# Altium integrated library Analog Devices Interface and Isolation Digital Isolators.IntLib: 644 symbols (part 25 of 37)
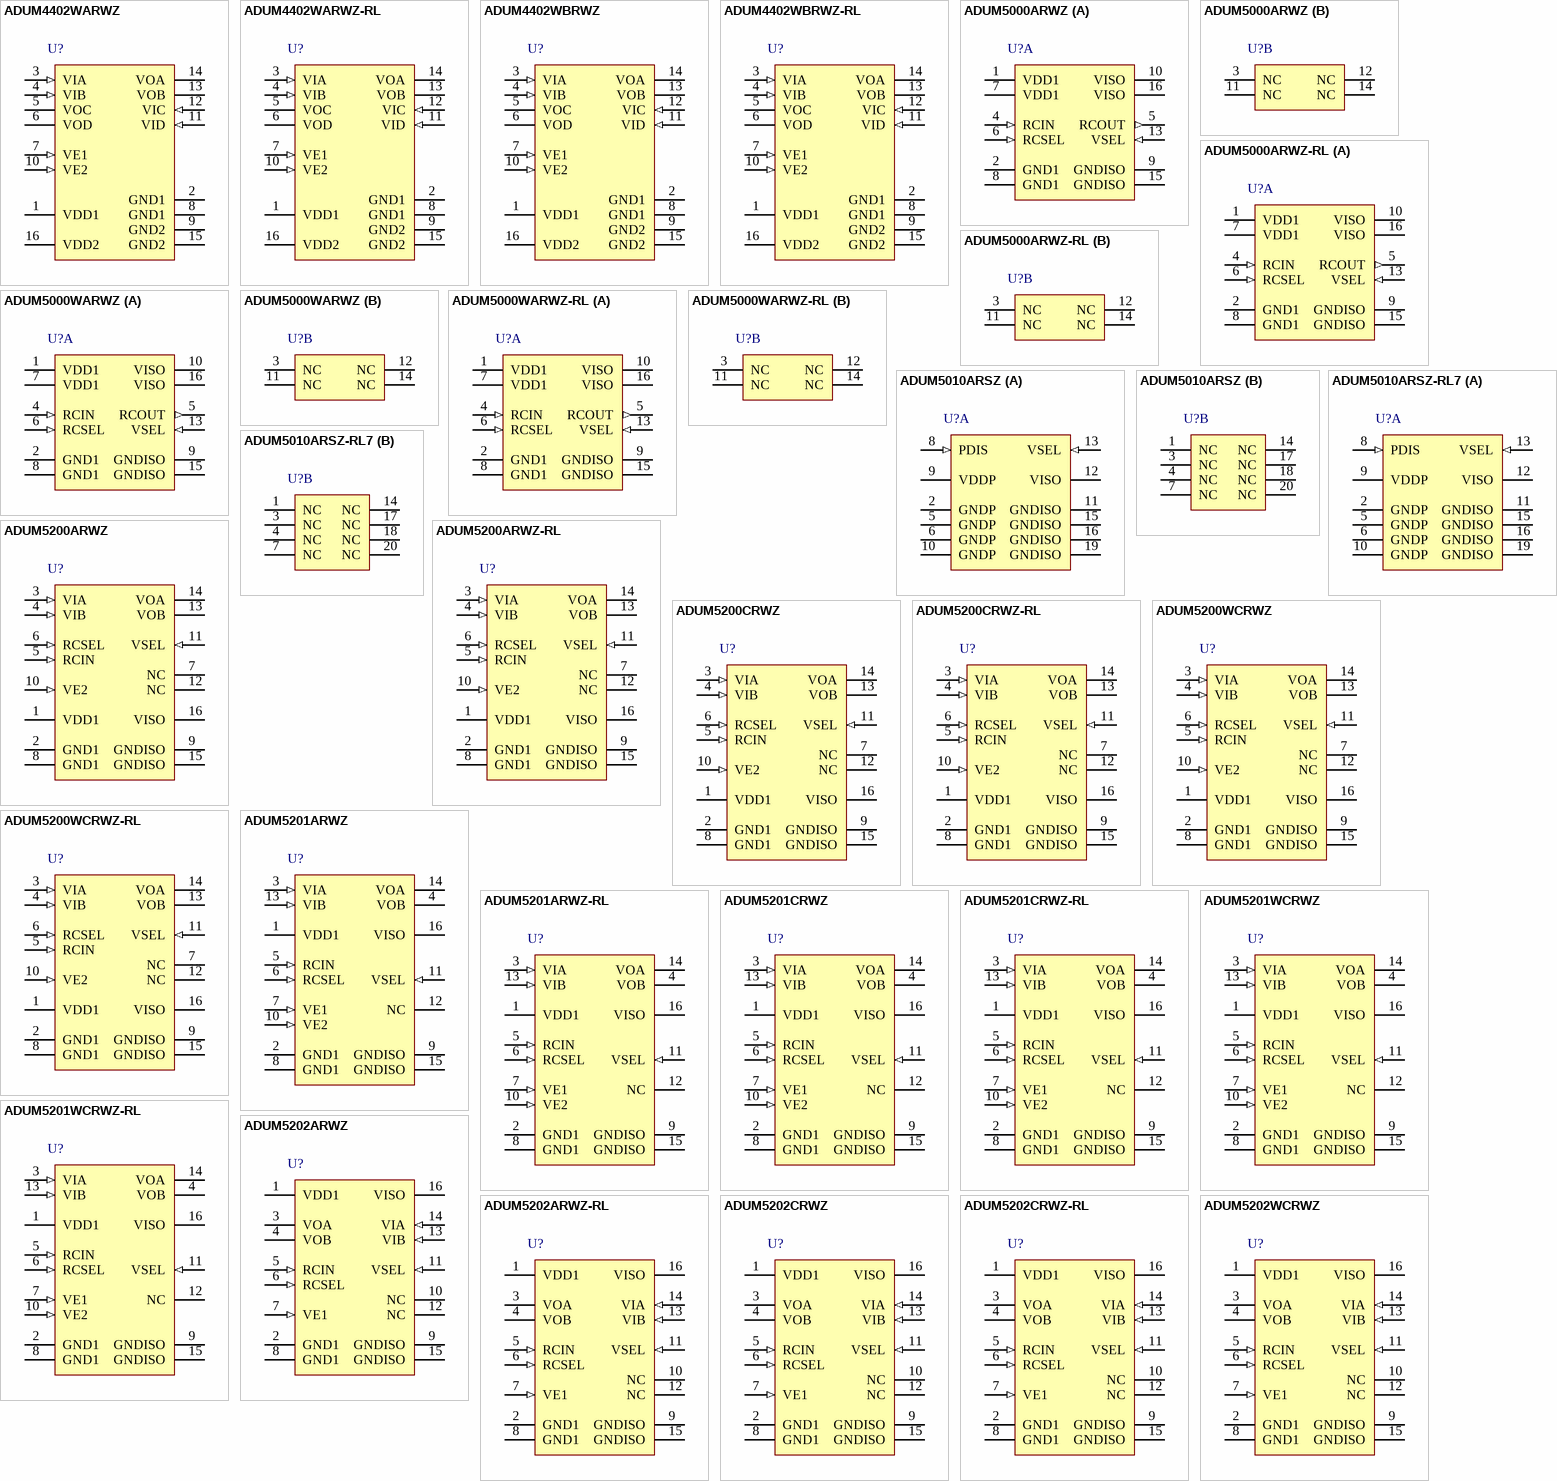
[diagram p44: symbols ADUM4402WARWZ to ADUM5202WCRWZ]

## ADUM5202WCRWZ
designator U?
Dual Channel Isolator with Integrated DC / DC Converter, 2.5 KV rms Insulation Rating, 25 Mbps Data Rate, 70 ns Delay, Industrial, 16-pin SOIC (RW-16), Tube; Manufacturer: Analog Devices; PartNumber: ADUM5202WCRWZ; Automotive Qualified: Yes; Insulation Rating (kVrms): 2.5; Max Data Rate: 25Mbps; Prop Delay: 70ns; DatasheetVersion: Rev. B; PackageVersion: 032707-B, 03/2007; PackageReference: RW-16; PackageDescription: 16-Pin Standard Small Outline Package, Body 10.3 x 7.5 mm, Pitch 1.27 mm; Supplier 1: Digi-Key; Supplier Part Number 1: ADUM5202WCRWZ-ND; Supplier 2: Mouser; Supplier Part Number 2: N/A; Max Operating Temp (degreesC): 105; Mounting Technology: Surface Mount; Code_JEDEC: MS-013-AA; ComponentLink1Description: Manufacturer URL; ComponentLink1URL: http://www.analog.com/en/index.html; ComponentLink2Description: Datasheet; ComponentLink2URL: http://www.analog.com/static/imported-files/data_sheets/ADuM5200_5201_5202.pdf; ComponentLink3Description: Package Specification; ComponentLink3URL: http://www.analog.com/static/imported-files/packages/PKG_PDF/SOIC_WIDE%20%28RW%29/RW_16.pdf
footprint ADI-RW-16_N (SOIC, 16-Leads, Body 10.3x7.5mm, Pitch 1.27mm, IPC Medium Density)
footprint ADI-RW-16_L (SOIC, 16-Leads, Body 10.3x7.5mm, Pitch 1.27mm, IPC High Density)
footprint ADI-RW-16_M (SOIC, 16-Leads, Body 10.3x7.5mm, Pitch 1.27mm, IPC Low Density)
pins: 1 VDD1 (power) "Primary Supply Voltage, 3.0 V to 5.5 V.", 2 GND1 (power) "Ground Reference for the Primary Side of the Isolator. Pin 2 and Pin 8 are internally connected to each other, and it is recommended that both pins be connected to a common ground.", 3 VOA (hiz) "Logic Output A.", 4 VOB (hiz) "Logic Output B.", 5 RCIN (in) "Regulation Control Input. This pin must be connected to the RCOUT pin of a master isoPower device or tied low. This pin must not be tied high if RCSEL is low; this combination causes excessive voltage on the secondary side (See Datasheet)", 6 RCSEL (in) "Control Input. Determines self-regulation mode (RCSEL high) or slave mode (RCSEL low), allowing external regulation. This pin is weakly pulled to the high state. In noisy environments, tie this pin either high or low.", 7 VE1 (in) "Data Enable Input. When this pin is high or not connected, the primary output is active; when this pin is low, the output is in a high-Z state.", 8 GND1 (power) "Ground Reference for the Primary Side of the Isolator. Pin 2 and Pin 8 are internally connected to each other, and it is recommended that both pins be connected to a common ground.", 9 GNDISO (power) "Ground Reference for the Secondary Side of the Isolator. Pin 9 and Pin 15 are internally connected to each other, and it is recommended that both pins be connected to a common ground.", 10 NC "No Internal Connection.", 11 VSEL (in) "Output Voltage Selection. When VSEL = VISO, the VISO setpoint is 5.0 V. When VSEL = GNDISO, the VISO setpoint is 3.3 V. In slave regulation mode, this pin has no function.", 12 NC "No Internal Connection.", 13 VIB (in) "Logic Input B.", 14 VIA (in) "Logic Input A.", 15 GNDISO (power) "Ground Reference for the Secondary Side of the Isolator. Pin 9 and Pin 15 are internally connected to each other, and it is recommended that both pins be connected to a common ground.", 16 VISO (power) "Secondary Supply Voltage. Output for secondary side isolated data channels and external loads."

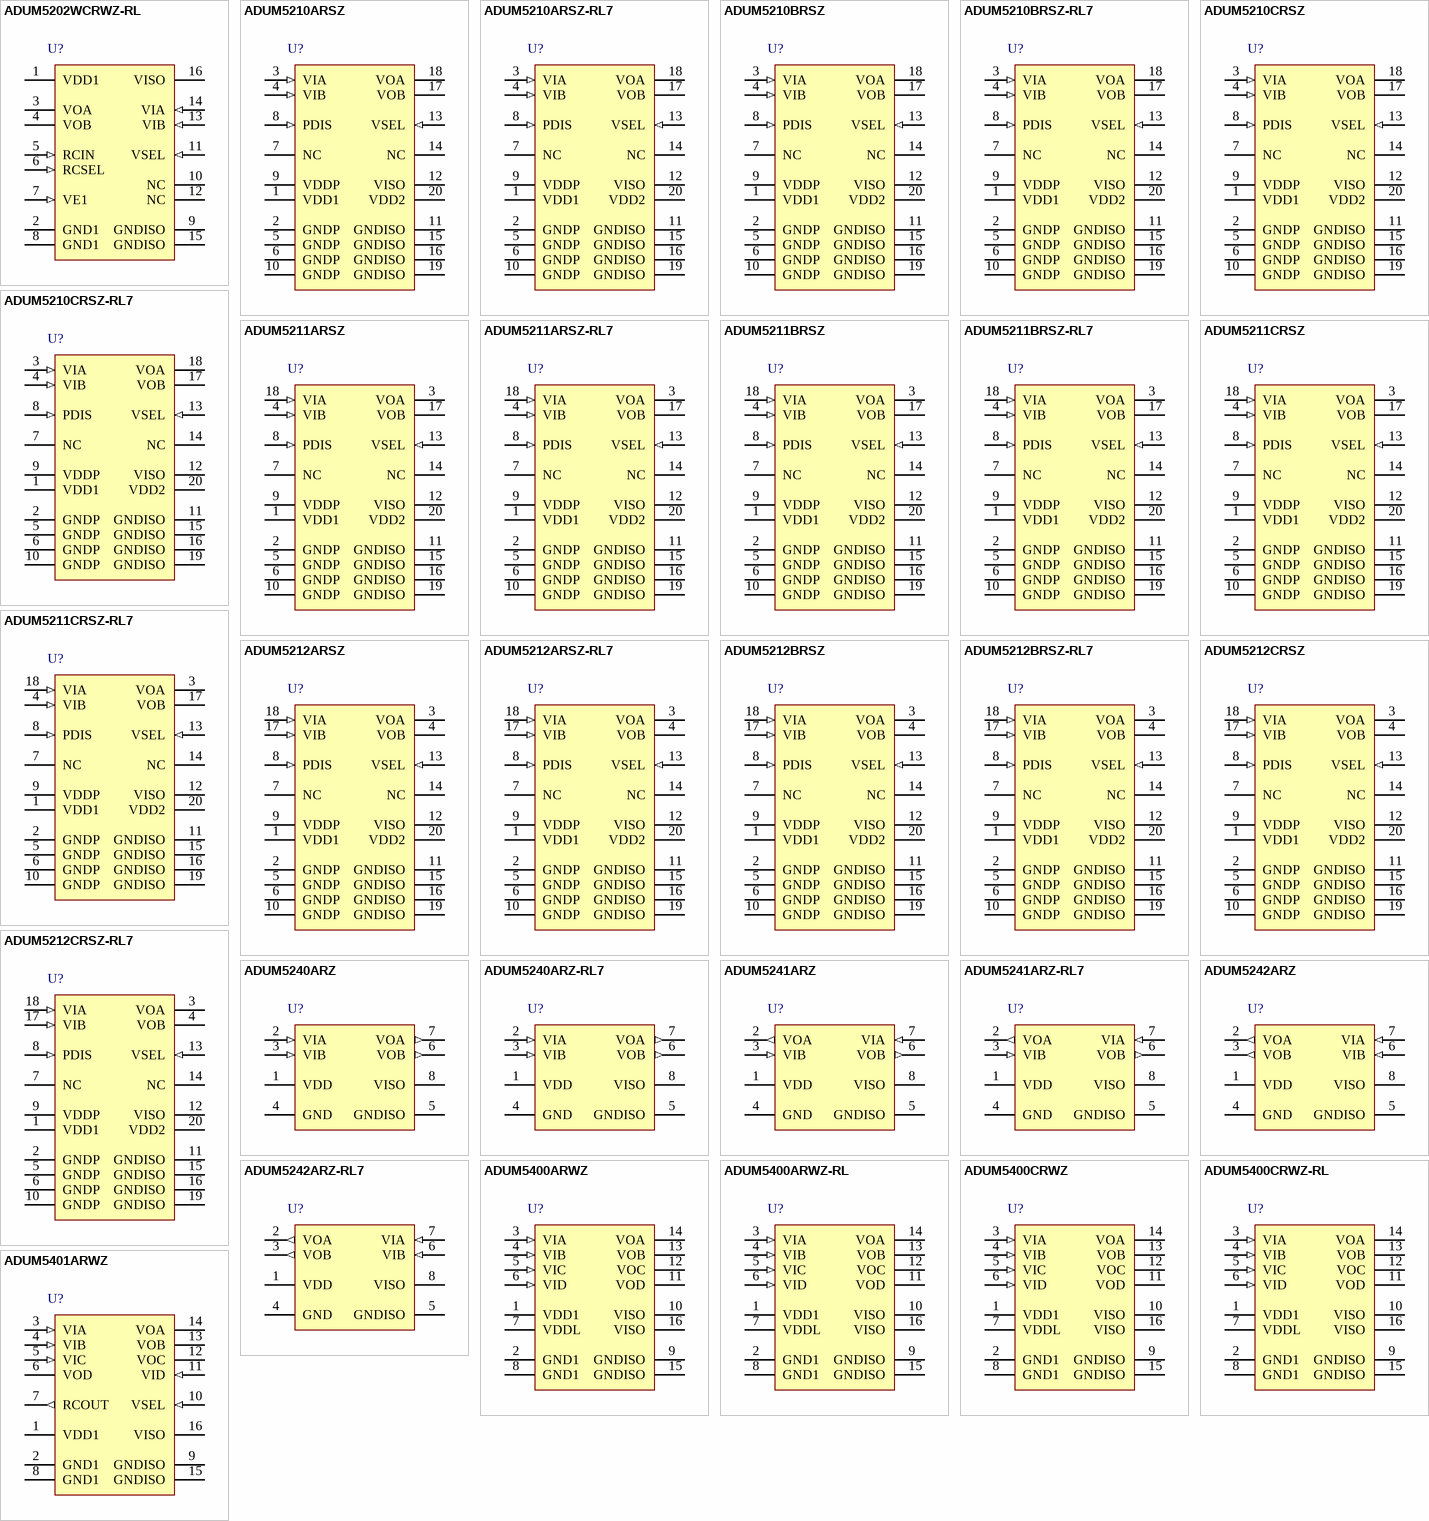
[diagram p15: symbols ADUM5202WCRWZ-RL to ADUM5401ARWZ]

## ADUM5202WCRWZ-RL
designator U?
Dual Channel Isolator with Integrated DC / DC Converter, 2.5 KV rms Insulation Rating, 25 Mbps Data Rate, 70 ns Delay, Industrial, 16-pin SOIC (RW-16), Reel; Manufacturer: Analog Devices; PartNumber: ADUM5202WCRWZ-RL; Automotive Qualified: Yes; Insulation Rating (kVrms): 2.5; Max Data Rate: 25Mbps; Prop Delay: 70ns; DatasheetVersion: Rev. B; PackageVersion: 032707-B, 03/2007; PackageReference: RW-16; PackageDescription: 16-Pin Standard Small Outline Package, Body 10.3 x 7.5 mm, Pitch 1.27 mm; Supplier 1: Digi-Key; Supplier Part Number 1: ADUM5202WCRWZ-RL-ND; Supplier 2: Mouser; Supplier Part Number 2: N/A; Max Operating Temp (degreesC): 105; Mounting Technology: Surface Mount; Code_JEDEC: MS-013-AA; ComponentLink1Description: Manufacturer URL; ComponentLink1URL: http://www.analog.com/en/index.html; ComponentLink2Description: Datasheet; ComponentLink2URL: http://www.analog.com/static/imported-files/data_sheets/ADuM5200_5201_5202.pdf; ComponentLink3Description: Package Specification; ComponentLink3URL: http://www.analog.com/static/imported-files/packages/PKG_PDF/SOIC_WIDE%20%28RW%29/RW_16.pdf
footprint ADI-RW-16_N (SOIC, 16-Leads, Body 10.3x7.5mm, Pitch 1.27mm, IPC Medium Density)
footprint ADI-RW-16_L (SOIC, 16-Leads, Body 10.3x7.5mm, Pitch 1.27mm, IPC High Density)
footprint ADI-RW-16_M (SOIC, 16-Leads, Body 10.3x7.5mm, Pitch 1.27mm, IPC Low Density)
pins: 1 VDD1 (power) "Primary Supply Voltage, 3.0 V to 5.5 V.", 2 GND1 (power) "Ground Reference for the Primary Side of the Isolator. Pin 2 and Pin 8 are internally connected to each other, and it is recommended that both pins be connected to a common ground.", 3 VOA (hiz) "Logic Output A.", 4 VOB (hiz) "Logic Output B.", 5 RCIN (in) "Regulation Control Input. This pin must be connected to the RCOUT pin of a master isoPower device or tied low. This pin must not be tied high if RCSEL is low; this combination causes excessive voltage on the secondary side (See Datasheet)", 6 RCSEL (in) "Control Input. Determines self-regulation mode (RCSEL high) or slave mode (RCSEL low), allowing external regulation. This pin is weakly pulled to the high state. In noisy environments, tie this pin either high or low.", 7 VE1 (in) "Data Enable Input. When this pin is high or not connected, the primary output is active; when this pin is low, the output is in a high-Z state.", 8 GND1 (power) "Ground Reference for the Primary Side of the Isolator. Pin 2 and Pin 8 are internally connected to each other, and it is recommended that both pins be connected to a common ground.", 9 GNDISO (power) "Ground Reference for the Secondary Side of the Isolator. Pin 9 and Pin 15 are internally connected to each other, and it is recommended that both pins be connected to a common ground.", 10 NC "No Internal Connection.", 11 VSEL (in) "Output Voltage Selection. When VSEL = VISO, the VISO setpoint is 5.0 V. When VSEL = GNDISO, the VISO setpoint is 3.3 V. In slave regulation mode, this pin has no function.", 12 NC "No Internal Connection.", 13 VIB (in) "Logic Input B.", 14 VIA (in) "Logic Input A.", 15 GNDISO (power) "Ground Reference for the Secondary Side of the Isolator. Pin 9 and Pin 15 are internally connected to each other, and it is recommended that both pins be connected to a common ground.", 16 VISO (power) "Secondary Supply Voltage. Output for secondary side isolated data channels and external loads."

## ADUM5210ARSZ
designator U?
Dual Channel Isolator with Integrated DC / DC Converter, 2.5 KV rms Insulation Rating, 1 Mbps Data Rate, 75 ns Delay, Industrial, 20-pin SOP (RS-20), Tube; Manufacturer: Analog Devices; PartNumber: ADUM5210ARSZ; Insulation Rating (kVrms): 2.5; Max Data Rate: 1Mbps; Prop Delay: 75ns; DatasheetVersion: Rev. 0; PackageVersion: Mar-03; PackageReference: RS-20; PackageDescription: 20-Pin Shrink Small Outline Package, Body 7.2 x 5.3 mm, Pitch 0.65 mm; Supplier 1: Digi-Key; Supplier Part Number 1: ADUM5210ARSZ-ND; Supplier 2: Mouser; Supplier Part Number 2: 584-ADUM5210ARSZ; Max Operating Temp (degreesC): 105; Mounting Technology: Surface Mount; Code_JEDEC: MO-150AE; ComponentLink1Description: Manufacturer URL; ComponentLink1URL: http://www.analog.com/en/index.html; ComponentLink2Description: Datasheet; ComponentLink2URL: http://www.analog.com/static/imported-files/data_sheets/ADuM5210_5211_5212.pdf; ComponentLink3Description: Package Specification; ComponentLink3URL: http://www.analog.com/static/imported-files/packages/318405805657546556503576154334802686596RS_20.pdf
footprint ADI-RS-20_N (SOP, 20-Leads, Body 7.2x5.3mm, Pitch 0.65mm, IPC Medium Density)
footprint ADI-RS-20_L (SOP, 20-Leads, Body 7.2x5.3mm, Pitch 0.65mm, IPC High Density)
footprint ADI-RS-20_M (SOP, 20-Leads, Body 7.2x5.3mm, Pitch 0.65mm, IPC Low Density)
pins: 1 VDD1 (power) "Power Supply for the Side 1 Logic Circuits of the Device. It is independent of VDDP and can operate between 3.0 V and 5.5 V.", 2 GNDP (power) "Ground Reference for Isolator Side 1. All of these pins are internally connected, and it is recommended that all GNDP pins be connected to a common ground.", 3 VIA (in) "Logic Input A.", 4 VIB (in) "Logic Input B.", 5 GNDP (power) "Ground Reference for Isolator Side 1. All of these pins are internally connected, and it is recommended that all GNDP pins be connected to a common ground.", 6 GNDP (power) "Ground Reference for Isolator Side 1. All of these pins are internally connected, and it is recommended that all GNDP pins be connected to a common ground.", 7 NC "This pin is not connected internally (see Figure 3).", 8 PDIS (in) "Power Disable. When this pin is tied to a logic low, the power converter is active; when tied to a logic high, the power supply enters a low power standby mode.", 9 VDDP (power) "Primary isoPower Supply Voltage, 3.0 V to 5.5 V.", 10 GNDP (power) "Ground Reference for Isolator Side 1. All of these pins are internally connected, and it is recommended that all GNDP pins be connected to a common ground.", 11 GNDISO (power) "Ground Reference for Isolator Side 2. All of these pins are internally connected, and it is recommended that all GNDISO pins be connected to a common ground.", 12 VISO (power) "Secondary Supply Voltage Output for External Loads, 3.3 V (VSEL Low) or 5.0 V (VSEL High).", 13 VSEL (in) "Output Voltage Select. Provide a thermally matched resistor network between VISO and GNDISO to divide the required output voltage to match the 1.25 V reference voltage. VISO voltage can be programmed up to 20% higher or 75% (See Datasheet)", 14 NC "This pin is not connected internally (see Figure 3).", 15 GNDISO (power) "Ground Reference for Isolator Side 2. All of these pins are internally connected, and it is recommended that all GNDISO pins be connected to a common ground.", 16 GNDISO (power) "Ground Reference for Isolator Side 2. All of these pins are internally connected, and it is recommended that all GNDISO pins be connected to a common ground.", 17 VOB (hiz) "Logic Output B.", 18 VOA (hiz) "Logic Output A.", 19 GNDISO (power) "Ground Reference for Isolator Side 2. All of these pins are internally connected, and it is recommended that all GNDISO pins be connected to a common ground.", 20 VDD2 (power) "Power Supply for the Side 2 Logic Circuits of the Device. It is independent of VISO and can operate between 3.0 V and 5.5 V."

## ADUM5210ARSZ-RL7
designator U?
Dual Channel Isolator with Integrated DC / DC Converter, 2.5 KV rms Insulation Rating, 1 Mbps Data Rate, 75 ns Delay, Industrial, 20-pin SOP (RS-20), Reel; Manufacturer: Analog Devices; PartNumber: ADUM5210ARSZ-RL7; Insulation Rating (kVrms): 2.5; Max Data Rate: 1Mbps; Prop Delay: 75ns; DatasheetVersion: Rev. 0; PackageVersion: Mar-03; PackageReference: RS-20; PackageDescription: 20-Pin Shrink Small Outline Package, Body 7.2 x 5.3 mm, Pitch 0.65 mm; Supplier 1: Digi-Key; Supplier Part Number 1: ADUM5210ARSZ-RL7-ND; Supplier 2: Mouser; Supplier Part Number 2: 584-ADUM5210ARSZ-R7; Max Operating Temp (degreesC): 105; Mounting Technology: Surface Mount; Code_JEDEC: MO-150AE; ComponentLink1Description: Manufacturer URL; ComponentLink1URL: http://www.analog.com/en/index.html; ComponentLink2Description: Datasheet; ComponentLink2URL: http://www.analog.com/static/imported-files/data_sheets/ADuM5210_5211_5212.pdf; ComponentLink3Description: Package Specification; ComponentLink3URL: http://www.analog.com/static/imported-files/packages/318405805657546556503576154334802686596RS_20.pdf
footprint ADI-RS-20_N (SOP, 20-Leads, Body 7.2x5.3mm, Pitch 0.65mm, IPC Medium Density)
footprint ADI-RS-20_L (SOP, 20-Leads, Body 7.2x5.3mm, Pitch 0.65mm, IPC High Density)
footprint ADI-RS-20_M (SOP, 20-Leads, Body 7.2x5.3mm, Pitch 0.65mm, IPC Low Density)
pins: 1 VDD1 (power) "Power Supply for the Side 1 Logic Circuits of the Device. It is independent of VDDP and can operate between 3.0 V and 5.5 V.", 2 GNDP (power) "Ground Reference for Isolator Side 1. All of these pins are internally connected, and it is recommended that all GNDP pins be connected to a common ground.", 3 VIA (in) "Logic Input A.", 4 VIB (in) "Logic Input B.", 5 GNDP (power) "Ground Reference for Isolator Side 1. All of these pins are internally connected, and it is recommended that all GNDP pins be connected to a common ground.", 6 GNDP (power) "Ground Reference for Isolator Side 1. All of these pins are internally connected, and it is recommended that all GNDP pins be connected to a common ground.", 7 NC "This pin is not connected internally (see Figure 3).", 8 PDIS (in) "Power Disable. When this pin is tied to a logic low, the power converter is active; when tied to a logic high, the power supply enters a low power standby mode.", 9 VDDP (power) "Primary isoPower Supply Voltage, 3.0 V to 5.5 V.", 10 GNDP (power) "Ground Reference for Isolator Side 1. All of these pins are internally connected, and it is recommended that all GNDP pins be connected to a common ground.", 11 GNDISO (power) "Ground Reference for Isolator Side 2. All of these pins are internally connected, and it is recommended that all GNDISO pins be connected to a common ground.", 12 VISO (power) "Secondary Supply Voltage Output for External Loads, 3.3 V (VSEL Low) or 5.0 V (VSEL High).", 13 VSEL (in) "Output Voltage Select. Provide a thermally matched resistor network between VISO and GNDISO to divide the required output voltage to match the 1.25 V reference voltage. VISO voltage can be programmed up to 20% higher or 75% (See Datasheet)", 14 NC "This pin is not connected internally (see Figure 3).", 15 GNDISO (power) "Ground Reference for Isolator Side 2. All of these pins are internally connected, and it is recommended that all GNDISO pins be connected to a common ground.", 16 GNDISO (power) "Ground Reference for Isolator Side 2. All of these pins are internally connected, and it is recommended that all GNDISO pins be connected to a common ground.", 17 VOB (hiz) "Logic Output B.", 18 VOA (hiz) "Logic Output A.", 19 GNDISO (power) "Ground Reference for Isolator Side 2. All of these pins are internally connected, and it is recommended that all GNDISO pins be connected to a common ground.", 20 VDD2 (power) "Power Supply for the Side 2 Logic Circuits of the Device. It is independent of VISO and can operate between 3.0 V and 5.5 V."

## ADUM5210BRSZ
designator U?
Dual Channel Isolator with Integrated DC / DC Converter, 2.5 KV rms Insulation Rating, 25 Mbps Data Rate, 40 ns Delay, Industrial, 20-pin SOP (RS-20), Tube; Manufacturer: Analog Devices; PartNumber: ADUM5210BRSZ; Insulation Rating (kVrms): 2.5; Max Data Rate: 25Mbps; Prop Delay: 40ns; DatasheetVersion: Rev. 0; PackageVersion: Mar-03; PackageReference: RS-20; PackageDescription: 20-Pin Shrink Small Outline Package, Body 7.2 x 5.3 mm, Pitch 0.65 mm; Supplier 1: Digi-Key; Supplier Part Number 1: ADUM5210BRSZ-ND; Supplier 2: Mouser; Supplier Part Number 2: 584-ADUM5210BRSZ; Max Operating Temp (degreesC): 105; Mounting Technology: Surface Mount; Code_JEDEC: MO-150AE; ComponentLink1Description: Manufacturer URL; ComponentLink1URL: http://www.analog.com/en/index.html; ComponentLink2Description: Datasheet; ComponentLink2URL: http://www.analog.com/static/imported-files/data_sheets/ADuM5210_5211_5212.pdf; ComponentLink3Description: Package Specification; ComponentLink3URL: http://www.analog.com/static/imported-files/packages/318405805657546556503576154334802686596RS_20.pdf
footprint ADI-RS-20_N (SOP, 20-Leads, Body 7.2x5.3mm, Pitch 0.65mm, IPC Medium Density)
footprint ADI-RS-20_L (SOP, 20-Leads, Body 7.2x5.3mm, Pitch 0.65mm, IPC High Density)
footprint ADI-RS-20_M (SOP, 20-Leads, Body 7.2x5.3mm, Pitch 0.65mm, IPC Low Density)
pins: 1 VDD1 (power) "Power Supply for the Side 1 Logic Circuits of the Device. It is independent of VDDP and can operate between 3.0 V and 5.5 V.", 2 GNDP (power) "Ground Reference for Isolator Side 1. All of these pins are internally connected, and it is recommended that all GNDP pins be connected to a common ground.", 3 VIA (in) "Logic Input A.", 4 VIB (in) "Logic Input B.", 5 GNDP (power) "Ground Reference for Isolator Side 1. All of these pins are internally connected, and it is recommended that all GNDP pins be connected to a common ground.", 6 GNDP (power) "Ground Reference for Isolator Side 1. All of these pins are internally connected, and it is recommended that all GNDP pins be connected to a common ground.", 7 NC "This pin is not connected internally (see Figure 3).", 8 PDIS (in) "Power Disable. When this pin is tied to a logic low, the power converter is active; when tied to a logic high, the power supply enters a low power standby mode.", 9 VDDP (power) "Primary isoPower Supply Voltage, 3.0 V to 5.5 V.", 10 GNDP (power) "Ground Reference for Isolator Side 1. All of these pins are internally connected, and it is recommended that all GNDP pins be connected to a common ground.", 11 GNDISO (power) "Ground Reference for Isolator Side 2. All of these pins are internally connected, and it is recommended that all GNDISO pins be connected to a common ground.", 12 VISO (power) "Secondary Supply Voltage Output for External Loads, 3.3 V (VSEL Low) or 5.0 V (VSEL High).", 13 VSEL (in) "Output Voltage Select. Provide a thermally matched resistor network between VISO and GNDISO to divide the required output voltage to match the 1.25 V reference voltage. VISO voltage can be programmed up to 20% higher or 75% (See Datasheet)", 14 NC "This pin is not connected internally (see Figure 3).", 15 GNDISO (power) "Ground Reference for Isolator Side 2. All of these pins are internally connected, and it is recommended that all GNDISO pins be connected to a common ground.", 16 GNDISO (power) "Ground Reference for Isolator Side 2. All of these pins are internally connected, and it is recommended that all GNDISO pins be connected to a common ground.", 17 VOB (hiz) "Logic Output B.", 18 VOA (hiz) "Logic Output A.", 19 GNDISO (power) "Ground Reference for Isolator Side 2. All of these pins are internally connected, and it is recommended that all GNDISO pins be connected to a common ground.", 20 VDD2 (power) "Power Supply for the Side 2 Logic Circuits of the Device. It is independent of VISO and can operate between 3.0 V and 5.5 V."

## ADUM5210BRSZ-RL7
designator U?
Dual Channel Isolator with Integrated DC / DC Converter, 2.5 KV rms Insulation Rating, 25 Mbps Data Rate, 40 ns Delay, Industrial, 20-pin SOP (RS-20), Reel; Manufacturer: Analog Devices; PartNumber: ADUM5210BRSZ-RL7; Insulation Rating (kVrms): 2.5; Max Data Rate: 25Mbps; Prop Delay: 40ns; DatasheetVersion: Rev. 0; PackageVersion: Mar-03; PackageReference: RS-20; PackageDescription: 20-Pin Shrink Small Outline Package, Body 7.2 x 5.3 mm, Pitch 0.65 mm; Supplier 1: Digi-Key; Supplier Part Number 1: ADUM5210BRSZ-RL7-ND; Supplier 2: Mouser; Supplier Part Number 2: 584-ADUM5210BRSZ-R7; Max Operating Temp (degreesC): 105; Mounting Technology: Surface Mount; Code_JEDEC: MO-150AE; ComponentLink1Description: Manufacturer URL; ComponentLink1URL: http://www.analog.com/en/index.html; ComponentLink2Description: Datasheet; ComponentLink2URL: http://www.analog.com/static/imported-files/data_sheets/ADuM5210_5211_5212.pdf; ComponentLink3Description: Package Specification; ComponentLink3URL: http://www.analog.com/static/imported-files/packages/318405805657546556503576154334802686596RS_20.pdf
footprint ADI-RS-20_N (SOP, 20-Leads, Body 7.2x5.3mm, Pitch 0.65mm, IPC Medium Density)
footprint ADI-RS-20_L (SOP, 20-Leads, Body 7.2x5.3mm, Pitch 0.65mm, IPC High Density)
footprint ADI-RS-20_M (SOP, 20-Leads, Body 7.2x5.3mm, Pitch 0.65mm, IPC Low Density)
pins: 1 VDD1 (power) "Power Supply for the Side 1 Logic Circuits of the Device. It is independent of VDDP and can operate between 3.0 V and 5.5 V.", 2 GNDP (power) "Ground Reference for Isolator Side 1. All of these pins are internally connected, and it is recommended that all GNDP pins be connected to a common ground.", 3 VIA (in) "Logic Input A.", 4 VIB (in) "Logic Input B.", 5 GNDP (power) "Ground Reference for Isolator Side 1. All of these pins are internally connected, and it is recommended that all GNDP pins be connected to a common ground.", 6 GNDP (power) "Ground Reference for Isolator Side 1. All of these pins are internally connected, and it is recommended that all GNDP pins be connected to a common ground.", 7 NC "This pin is not connected internally (see Figure 3).", 8 PDIS (in) "Power Disable. When this pin is tied to a logic low, the power converter is active; when tied to a logic high, the power supply enters a low power standby mode.", 9 VDDP (power) "Primary isoPower Supply Voltage, 3.0 V to 5.5 V.", 10 GNDP (power) "Ground Reference for Isolator Side 1. All of these pins are internally connected, and it is recommended that all GNDP pins be connected to a common ground.", 11 GNDISO (power) "Ground Reference for Isolator Side 2. All of these pins are internally connected, and it is recommended that all GNDISO pins be connected to a common ground.", 12 VISO (power) "Secondary Supply Voltage Output for External Loads, 3.3 V (VSEL Low) or 5.0 V (VSEL High).", 13 VSEL (in) "Output Voltage Select. Provide a thermally matched resistor network between VISO and GNDISO to divide the required output voltage to match the 1.25 V reference voltage. VISO voltage can be programmed up to 20% higher or 75% (See Datasheet)", 14 NC "This pin is not connected internally (see Figure 3).", 15 GNDISO (power) "Ground Reference for Isolator Side 2. All of these pins are internally connected, and it is recommended that all GNDISO pins be connected to a common ground.", 16 GNDISO (power) "Ground Reference for Isolator Side 2. All of these pins are internally connected, and it is recommended that all GNDISO pins be connected to a common ground.", 17 VOB (hiz) "Logic Output B.", 18 VOA (hiz) "Logic Output A.", 19 GNDISO (power) "Ground Reference for Isolator Side 2. All of these pins are internally connected, and it is recommended that all GNDISO pins be connected to a common ground.", 20 VDD2 (power) "Power Supply for the Side 2 Logic Circuits of the Device. It is independent of VISO and can operate between 3.0 V and 5.5 V."

## ADUM5210CRSZ
designator U?
Dual Channel Isolator with Integrated DC / DC Converter, 2.5 KV rms Insulation Rating, 100 Mbps Data Rate, 15 ns Delay, Industrial, 20-pin SOP (RS-20), Tube; Manufacturer: Analog Devices; PartNumber: ADUM5210CRSZ; Insulation Rating (kVrms): 2.5; Prop Delay: 15ns; DatasheetVersion: Rev. 0; PackageVersion: Mar-03; PackageReference: RS-20; PackageDescription: 20-Pin Shrink Small Outline Package, Body 7.2 x 5.3 mm, Pitch 0.65 mm; Supplier 1: Digi-Key; Supplier Part Number 1: ADUM5210CRSZ-ND; Supplier 2: Farnell; Supplier Part Number 2: 2218481; Supplier 3: Mouser; Supplier Part Number 3: 584-ADUM5210CRSZ; Max Data Rate: 100Mbps; Max Operating Temp (degreesC): 105; Mounting Technology: Surface Mount; Code_JEDEC: MO-150AE; ComponentLink1Description: Manufacturer URL; ComponentLink1URL: http://www.analog.com/en/index.html; ComponentLink2Description: Datasheet; ComponentLink2URL: http://www.analog.com/static/imported-files/data_sheets/ADuM5210_5211_5212.pdf; ComponentLink3Description: Package Specification; ComponentLink3URL: http://www.analog.com/static/imported-files/packages/318405805657546556503576154334802686596RS_20.pdf
footprint ADI-RS-20_N (SOP, 20-Leads, Body 7.2x5.3mm, Pitch 0.65mm, IPC Medium Density)
footprint ADI-RS-20_L (SOP, 20-Leads, Body 7.2x5.3mm, Pitch 0.65mm, IPC High Density)
footprint ADI-RS-20_M (SOP, 20-Leads, Body 7.2x5.3mm, Pitch 0.65mm, IPC Low Density)
pins: 1 VDD1 (power) "Power Supply for the Side 1 Logic Circuits of the Device. It is independent of VDDP and can operate between 3.0 V and 5.5 V.", 2 GNDP (power) "Ground Reference for Isolator Side 1. All of these pins are internally connected, and it is recommended that all GNDP pins be connected to a common ground.", 3 VIA (in) "Logic Input A.", 4 VIB (in) "Logic Input B.", 5 GNDP (power) "Ground Reference for Isolator Side 1. All of these pins are internally connected, and it is recommended that all GNDP pins be connected to a common ground.", 6 GNDP (power) "Ground Reference for Isolator Side 1. All of these pins are internally connected, and it is recommended that all GNDP pins be connected to a common ground.", 7 NC "This pin is not connected internally (see Figure 3).", 8 PDIS (in) "Power Disable. When this pin is tied to a logic low, the power converter is active; when tied to a logic high, the power supply enters a low power standby mode.", 9 VDDP (power) "Primary isoPower Supply Voltage, 3.0 V to 5.5 V.", 10 GNDP (power) "Ground Reference for Isolator Side 1. All of these pins are internally connected, and it is recommended that all GNDP pins be connected to a common ground.", 11 GNDISO (power) "Ground Reference for Isolator Side 2. All of these pins are internally connected, and it is recommended that all GNDISO pins be connected to a common ground.", 12 VISO (power) "Secondary Supply Voltage Output for External Loads, 3.3 V (VSEL Low) or 5.0 V (VSEL High).", 13 VSEL (in) "Output Voltage Select. Provide a thermally matched resistor network between VISO and GNDISO to divide the required output voltage to match the 1.25 V reference voltage. VISO voltage can be programmed up to 20% higher or 75% (See Datasheet)", 14 NC "This pin is not connected internally (see Figure 3).", 15 GNDISO (power) "Ground Reference for Isolator Side 2. All of these pins are internally connected, and it is recommended that all GNDISO pins be connected to a common ground.", 16 GNDISO (power) "Ground Reference for Isolator Side 2. All of these pins are internally connected, and it is recommended that all GNDISO pins be connected to a common ground.", 17 VOB (hiz) "Logic Output B.", 18 VOA (hiz) "Logic Output A.", 19 GNDISO (power) "Ground Reference for Isolator Side 2. All of these pins are internally connected, and it is recommended that all GNDISO pins be connected to a common ground.", 20 VDD2 (power) "Power Supply for the Side 2 Logic Circuits of the Device. It is independent of VISO and can operate between 3.0 V and 5.5 V."

## ADUM5210CRSZ-RL7
designator U?
Dual Channel Isolator with Integrated DC / DC Converter, 2.5 KV rms Insulation Rating, 100 Mbps Data Rate, 15 ns Delay, Industrial, 20-pin SOP (RS-20), Reel; Manufacturer: Analog Devices; PartNumber: ADUM5210CRSZ-RL7; Insulation Rating (kVrms): 2.5; Prop Delay: 15ns; DatasheetVersion: Rev. 0; PackageVersion: Mar-03; PackageReference: RS-20; PackageDescription: 20-Pin Shrink Small Outline Package, Body 7.2 x 5.3 mm, Pitch 0.65 mm; Supplier 1: Digi-Key; Supplier Part Number 1: ADUM5210CRSZ-RL7-ND; Supplier 2: Mouser; Supplier Part Number 2: 584-ADUM5210CRSZ-R7; Max Data Rate: 100Mbps; Max Operating Temp (degreesC): 105; Mounting Technology: Surface Mount; Code_JEDEC: MO-150AE; ComponentLink1Description: Manufacturer URL; ComponentLink1URL: http://www.analog.com/en/index.html; ComponentLink2Description: Datasheet; ComponentLink2URL: http://www.analog.com/static/imported-files/data_sheets/ADuM5210_5211_5212.pdf; ComponentLink3Description: Package Specification; ComponentLink3URL: http://www.analog.com/static/imported-files/packages/318405805657546556503576154334802686596RS_20.pdf
footprint ADI-RS-20_N (SOP, 20-Leads, Body 7.2x5.3mm, Pitch 0.65mm, IPC Medium Density)
footprint ADI-RS-20_L (SOP, 20-Leads, Body 7.2x5.3mm, Pitch 0.65mm, IPC High Density)
footprint ADI-RS-20_M (SOP, 20-Leads, Body 7.2x5.3mm, Pitch 0.65mm, IPC Low Density)
pins: 1 VDD1 (power) "Power Supply for the Side 1 Logic Circuits of the Device. It is independent of VDDP and can operate between 3.0 V and 5.5 V.", 2 GNDP (power) "Ground Reference for Isolator Side 1. All of these pins are internally connected, and it is recommended that all GNDP pins be connected to a common ground.", 3 VIA (in) "Logic Input A.", 4 VIB (in) "Logic Input B.", 5 GNDP (power) "Ground Reference for Isolator Side 1. All of these pins are internally connected, and it is recommended that all GNDP pins be connected to a common ground.", 6 GNDP (power) "Ground Reference for Isolator Side 1. All of these pins are internally connected, and it is recommended that all GNDP pins be connected to a common ground.", 7 NC "This pin is not connected internally (see Figure 3).", 8 PDIS (in) "Power Disable. When this pin is tied to a logic low, the power converter is active; when tied to a logic high, the power supply enters a low power standby mode.", 9 VDDP (power) "Primary isoPower Supply Voltage, 3.0 V to 5.5 V.", 10 GNDP (power) "Ground Reference for Isolator Side 1. All of these pins are internally connected, and it is recommended that all GNDP pins be connected to a common ground.", 11 GNDISO (power) "Ground Reference for Isolator Side 2. All of these pins are internally connected, and it is recommended that all GNDISO pins be connected to a common ground.", 12 VISO (power) "Secondary Supply Voltage Output for External Loads, 3.3 V (VSEL Low) or 5.0 V (VSEL High).", 13 VSEL (in) "Output Voltage Select. Provide a thermally matched resistor network between VISO and GNDISO to divide the required output voltage to match the 1.25 V reference voltage. VISO voltage can be programmed up to 20% higher or 75% (See Datasheet)", 14 NC "This pin is not connected internally (see Figure 3).", 15 GNDISO (power) "Ground Reference for Isolator Side 2. All of these pins are internally connected, and it is recommended that all GNDISO pins be connected to a common ground.", 16 GNDISO (power) "Ground Reference for Isolator Side 2. All of these pins are internally connected, and it is recommended that all GNDISO pins be connected to a common ground.", 17 VOB (hiz) "Logic Output B.", 18 VOA (hiz) "Logic Output A.", 19 GNDISO (power) "Ground Reference for Isolator Side 2. All of these pins are internally connected, and it is recommended that all GNDISO pins be connected to a common ground.", 20 VDD2 (power) "Power Supply for the Side 2 Logic Circuits of the Device. It is independent of VISO and can operate between 3.0 V and 5.5 V."

## ADUM5211ARSZ
designator U?
Dual Channel Isolator with Integrated DC / DC Converter, 2.5 KV rms Insulation Rating, 1 Mbps Data Rate, 75 ns Delay, Industrial, 20-pin SOP (RS-20), Tube; Manufacturer: Analog Devices; PartNumber: ADUM5211ARSZ; Insulation Rating (kVrms): 2.5; Max Data Rate: 1Mbps; Prop Delay: 75ns; DatasheetVersion: Rev. 0; PackageVersion: Mar-03; PackageReference: RS-20; PackageDescription: 20-Pin Shrink Small Outline Package, Body 7.2 x 5.3 mm, Pitch 0.65 mm; Supplier 1: Digi-Key; Supplier Part Number 1: ADUM5211ARSZ-ND; Supplier 2: Mouser; Supplier Part Number 2: 584-ADUM5211ARSZ; Max Operating Temp (degreesC): 105; Mounting Technology: Surface Mount; Code_JEDEC: MO-150AE; ComponentLink1Description: Manufacturer URL; ComponentLink1URL: http://www.analog.com/en/index.html; ComponentLink2Description: Datasheet; ComponentLink2URL: http://www.analog.com/static/imported-files/data_sheets/ADuM5210_5211_5212.pdf; ComponentLink3Description: Package Specification; ComponentLink3URL: http://www.analog.com/static/imported-files/packages/318405805657546556503576154334802686596RS_20.pdf
footprint ADI-RS-20_N (SOP, 20-Leads, Body 7.2x5.3mm, Pitch 0.65mm, IPC Medium Density)
footprint ADI-RS-20_L (SOP, 20-Leads, Body 7.2x5.3mm, Pitch 0.65mm, IPC High Density)
footprint ADI-RS-20_M (SOP, 20-Leads, Body 7.2x5.3mm, Pitch 0.65mm, IPC Low Density)
pins: 1 VDD1 (power) "Power Supply for the Side 1 Logic Circuits of the Device. It is independent of VDDP and can operate between 3.0 V and 5.5 V.", 2 GNDP (power) "Ground Reference for Isolator Side 1. All of these pins are internally connected, and it is recommended that all GNDP pins be connected to a common ground.", 3 VOA (hiz) "Logic Output A.", 4 VIB (in) "Logic Input B.", 5 GNDP (power) "Ground Reference for Isolator Side 1. All of these pins are internally connected, and it is recommended that all GNDP pins be connected to a common ground.", 6 GNDP (power) "Ground Reference for Isolator Side 1. All of these pins are internally connected, and it is recommended that all GNDP pins be connected to a common ground.", 7 NC "This pin is not connected internally.", 8 PDIS (in) "Power Disable. When this pin is tied to a logic low, the power converter is active; when tied to a logic high, the power supply enters a low power standby mode.", 9 VDDP (power) "Primary isoPower Supply Voltage, 3.0 V to 5.5 V.", 10 GNDP (power) "Ground Reference for Isolator Side 1. All of these pins are internally connected, and it is recommended that all GNDP pins be connected to a common ground.", 11 GNDISO (power) "Ground Reference for Isolator Side 2. All of these pins are internally connected, and it is recommended that all GNDISO pins be connected to a common ground.", 12 VISO (power) "Secondary Supply Voltage Output for External Loads, 3.3 V (VSEL Low) or 5.0 V (VSEL High).", 13 VSEL (in) "Output Voltage Select. Provide a thermally matched resistor network between VISO and GNDISO to divide the required output voltage to match the 1.25 V reference voltage. VISO voltage can be programmed up to 20% higher or 75% (See Datasheet)", 14 NC "This pin is not connected internally.", 15 GNDISO (power) "Ground Reference for Isolator Side 2. All of these pins are internally connected, and it is recommended that all GNDISO pins be connected to a common ground.", 16 GNDISO (power) "Ground Reference for Isolator Side 2. All of these pins are internally connected, and it is recommended that all GNDISO pins be connected to a common ground.", 17 VOB (hiz) "Logic Output B.", 18 VIA (in) "Logic Input A.", 19 GNDISO (power) "Ground Reference for Isolator Side 2. All of these pins are internally connected, and it is recommended that all GNDISO pins be connected to a common ground.", 20 VDD2 (power) "Power Supply for the Side 2 Logic Circuits of the Device. It is independent of VISO and can operate between 3.0 V and 5.5 V."

## ADUM5211ARSZ-RL7
designator U?
Dual Channel Isolator with Integrated DC / DC Converter, 2.5 KV rms Insulation Rating, 1 Mbps Data Rate, 75 ns Delay, Industrial, 20-pin SOP (RS-20), Reel; Manufacturer: Analog Devices; PartNumber: ADUM5211ARSZ-RL7; Insulation Rating (kVrms): 2.5; Max Data Rate: 1Mbps; Prop Delay: 75ns; DatasheetVersion: Rev. 0; PackageVersion: Mar-03; PackageReference: RS-20; PackageDescription: 20-Pin Shrink Small Outline Package, Body 7.2 x 5.3 mm, Pitch 0.65 mm; Supplier 1: Digi-Key; Supplier Part Number 1: ADUM5211ARSZ-RL7-ND; Supplier 2: Mouser; Supplier Part Number 2: 584-ADUM5211ARSZ-R7; Max Operating Temp (degreesC): 105; Mounting Technology: Surface Mount; Code_JEDEC: MO-150AE; ComponentLink1Description: Manufacturer URL; ComponentLink1URL: http://www.analog.com/en/index.html; ComponentLink2Description: Datasheet; ComponentLink2URL: http://www.analog.com/static/imported-files/data_sheets/ADuM5210_5211_5212.pdf; ComponentLink3Description: Package Specification; ComponentLink3URL: http://www.analog.com/static/imported-files/packages/318405805657546556503576154334802686596RS_20.pdf
footprint ADI-RS-20_N (SOP, 20-Leads, Body 7.2x5.3mm, Pitch 0.65mm, IPC Medium Density)
footprint ADI-RS-20_L (SOP, 20-Leads, Body 7.2x5.3mm, Pitch 0.65mm, IPC High Density)
footprint ADI-RS-20_M (SOP, 20-Leads, Body 7.2x5.3mm, Pitch 0.65mm, IPC Low Density)
pins: 1 VDD1 (power) "Power Supply for the Side 1 Logic Circuits of the Device. It is independent of VDDP and can operate between 3.0 V and 5.5 V.", 2 GNDP (power) "Ground Reference for Isolator Side 1. All of these pins are internally connected, and it is recommended that all GNDP pins be connected to a common ground.", 3 VOA (hiz) "Logic Output A.", 4 VIB (in) "Logic Input B.", 5 GNDP (power) "Ground Reference for Isolator Side 1. All of these pins are internally connected, and it is recommended that all GNDP pins be connected to a common ground.", 6 GNDP (power) "Ground Reference for Isolator Side 1. All of these pins are internally connected, and it is recommended that all GNDP pins be connected to a common ground.", 7 NC "This pin is not connected internally.", 8 PDIS (in) "Power Disable. When this pin is tied to a logic low, the power converter is active; when tied to a logic high, the power supply enters a low power standby mode.", 9 VDDP (power) "Primary isoPower Supply Voltage, 3.0 V to 5.5 V.", 10 GNDP (power) "Ground Reference for Isolator Side 1. All of these pins are internally connected, and it is recommended that all GNDP pins be connected to a common ground.", 11 GNDISO (power) "Ground Reference for Isolator Side 2. All of these pins are internally connected, and it is recommended that all GNDISO pins be connected to a common ground.", 12 VISO (power) "Secondary Supply Voltage Output for External Loads, 3.3 V (VSEL Low) or 5.0 V (VSEL High).", 13 VSEL (in) "Output Voltage Select. Provide a thermally matched resistor network between VISO and GNDISO to divide the required output voltage to match the 1.25 V reference voltage. VISO voltage can be programmed up to 20% higher or 75% (See Datasheet)", 14 NC "This pin is not connected internally.", 15 GNDISO (power) "Ground Reference for Isolator Side 2. All of these pins are internally connected, and it is recommended that all GNDISO pins be connected to a common ground.", 16 GNDISO (power) "Ground Reference for Isolator Side 2. All of these pins are internally connected, and it is recommended that all GNDISO pins be connected to a common ground.", 17 VOB (hiz) "Logic Output B.", 18 VIA (in) "Logic Input A.", 19 GNDISO (power) "Ground Reference for Isolator Side 2. All of these pins are internally connected, and it is recommended that all GNDISO pins be connected to a common ground.", 20 VDD2 (power) "Power Supply for the Side 2 Logic Circuits of the Device. It is independent of VISO and can operate between 3.0 V and 5.5 V."

## ADUM5211BRSZ
designator U?
Dual Channel Isolator with Integrated DC / DC Converter, 2.5 KV rms Insulation Rating, 25 Mbps Data Rate, 40 ns Delay, Industrial, 20-pin SOP (RS-20), Tube; Manufacturer: Analog Devices; PartNumber: ADUM5211BRSZ; Insulation Rating (kVrms): 2.5; Max Data Rate: 25Mbps; Prop Delay: 40ns; DatasheetVersion: Rev. 0; PackageVersion: Mar-03; PackageReference: RS-20; PackageDescription: 20-Pin Shrink Small Outline Package, Body 7.2 x 5.3 mm, Pitch 0.65 mm; Supplier 1: Digi-Key; Supplier Part Number 1: ADUM5211BRSZ-ND; Supplier 2: Mouser; Supplier Part Number 2: 584-ADUM5211BRSZ; Max Operating Temp (degreesC): 105; Mounting Technology: Surface Mount; Code_JEDEC: MO-150AE; ComponentLink1Description: Manufacturer URL; ComponentLink1URL: http://www.analog.com/en/index.html; ComponentLink2Description: Datasheet; ComponentLink2URL: http://www.analog.com/static/imported-files/data_sheets/ADuM5210_5211_5212.pdf; ComponentLink3Description: Package Specification; ComponentLink3URL: http://www.analog.com/static/imported-files/packages/318405805657546556503576154334802686596RS_20.pdf
footprint ADI-RS-20_N (SOP, 20-Leads, Body 7.2x5.3mm, Pitch 0.65mm, IPC Medium Density)
footprint ADI-RS-20_L (SOP, 20-Leads, Body 7.2x5.3mm, Pitch 0.65mm, IPC High Density)
footprint ADI-RS-20_M (SOP, 20-Leads, Body 7.2x5.3mm, Pitch 0.65mm, IPC Low Density)
pins: 1 VDD1 (power) "Power Supply for the Side 1 Logic Circuits of the Device. It is independent of VDDP and can operate between 3.0 V and 5.5 V.", 2 GNDP (power) "Ground Reference for Isolator Side 1. All of these pins are internally connected, and it is recommended that all GNDP pins be connected to a common ground.", 3 VOA (hiz) "Logic Output A.", 4 VIB (in) "Logic Input B.", 5 GNDP (power) "Ground Reference for Isolator Side 1. All of these pins are internally connected, and it is recommended that all GNDP pins be connected to a common ground.", 6 GNDP (power) "Ground Reference for Isolator Side 1. All of these pins are internally connected, and it is recommended that all GNDP pins be connected to a common ground.", 7 NC "This pin is not connected internally.", 8 PDIS (in) "Power Disable. When this pin is tied to a logic low, the power converter is active; when tied to a logic high, the power supply enters a low power standby mode.", 9 VDDP (power) "Primary isoPower Supply Voltage, 3.0 V to 5.5 V.", 10 GNDP (power) "Ground Reference for Isolator Side 1. All of these pins are internally connected, and it is recommended that all GNDP pins be connected to a common ground.", 11 GNDISO (power) "Ground Reference for Isolator Side 2. All of these pins are internally connected, and it is recommended that all GNDISO pins be connected to a common ground.", 12 VISO (power) "Secondary Supply Voltage Output for External Loads, 3.3 V (VSEL Low) or 5.0 V (VSEL High).", 13 VSEL (in) "Output Voltage Select. Provide a thermally matched resistor network between VISO and GNDISO to divide the required output voltage to match the 1.25 V reference voltage. VISO voltage can be programmed up to 20% higher or 75% (See Datasheet)", 14 NC "This pin is not connected internally.", 15 GNDISO (power) "Ground Reference for Isolator Side 2. All of these pins are internally connected, and it is recommended that all GNDISO pins be connected to a common ground.", 16 GNDISO (power) "Ground Reference for Isolator Side 2. All of these pins are internally connected, and it is recommended that all GNDISO pins be connected to a common ground.", 17 VOB (hiz) "Logic Output B.", 18 VIA (in) "Logic Input A.", 19 GNDISO (power) "Ground Reference for Isolator Side 2. All of these pins are internally connected, and it is recommended that all GNDISO pins be connected to a common ground.", 20 VDD2 (power) "Power Supply for the Side 2 Logic Circuits of the Device. It is independent of VISO and can operate between 3.0 V and 5.5 V."

## ADUM5211BRSZ-RL7
designator U?
Dual Channel Isolator with Integrated DC / DC Converter, 2.5 KV rms Insulation Rating, 25 Mbps Data Rate, 40 ns Delay, Industrial, 20-pin SOP (RS-20), Reel; Manufacturer: Analog Devices; PartNumber: ADUM5211BRSZ-RL7; Insulation Rating (kVrms): 2.5; Max Data Rate: 25Mbps; Prop Delay: 40ns; DatasheetVersion: Rev. 0; PackageVersion: Mar-03; PackageReference: RS-20; PackageDescription: 20-Pin Shrink Small Outline Package, Body 7.2 x 5.3 mm, Pitch 0.65 mm; Supplier 1: Digi-Key; Supplier Part Number 1: ADUM5211BRSZ-RL7-ND; Supplier 2: Mouser; Supplier Part Number 2: 584-ADUM5211BRSZ-R7; Max Operating Temp (degreesC): 105; Mounting Technology: Surface Mount; Code_JEDEC: MO-150AE; ComponentLink1Description: Manufacturer URL; ComponentLink1URL: http://www.analog.com/en/index.html; ComponentLink2Description: Datasheet; ComponentLink2URL: http://www.analog.com/static/imported-files/data_sheets/ADuM5210_5211_5212.pdf; ComponentLink3Description: Package Specification; ComponentLink3URL: http://www.analog.com/static/imported-files/packages/318405805657546556503576154334802686596RS_20.pdf
footprint ADI-RS-20_N (SOP, 20-Leads, Body 7.2x5.3mm, Pitch 0.65mm, IPC Medium Density)
footprint ADI-RS-20_L (SOP, 20-Leads, Body 7.2x5.3mm, Pitch 0.65mm, IPC High Density)
footprint ADI-RS-20_M (SOP, 20-Leads, Body 7.2x5.3mm, Pitch 0.65mm, IPC Low Density)
pins: 1 VDD1 (power) "Power Supply for the Side 1 Logic Circuits of the Device. It is independent of VDDP and can operate between 3.0 V and 5.5 V.", 2 GNDP (power) "Ground Reference for Isolator Side 1. All of these pins are internally connected, and it is recommended that all GNDP pins be connected to a common ground.", 3 VOA (hiz) "Logic Output A.", 4 VIB (in) "Logic Input B.", 5 GNDP (power) "Ground Reference for Isolator Side 1. All of these pins are internally connected, and it is recommended that all GNDP pins be connected to a common ground.", 6 GNDP (power) "Ground Reference for Isolator Side 1. All of these pins are internally connected, and it is recommended that all GNDP pins be connected to a common ground.", 7 NC "This pin is not connected internally.", 8 PDIS (in) "Power Disable. When this pin is tied to a logic low, the power converter is active; when tied to a logic high, the power supply enters a low power standby mode.", 9 VDDP (power) "Primary isoPower Supply Voltage, 3.0 V to 5.5 V.", 10 GNDP (power) "Ground Reference for Isolator Side 1. All of these pins are internally connected, and it is recommended that all GNDP pins be connected to a common ground.", 11 GNDISO (power) "Ground Reference for Isolator Side 2. All of these pins are internally connected, and it is recommended that all GNDISO pins be connected to a common ground.", 12 VISO (power) "Secondary Supply Voltage Output for External Loads, 3.3 V (VSEL Low) or 5.0 V (VSEL High).", 13 VSEL (in) "Output Voltage Select. Provide a thermally matched resistor network between VISO and GNDISO to divide the required output voltage to match the 1.25 V reference voltage. VISO voltage can be programmed up to 20% higher or 75% (See Datasheet)", 14 NC "This pin is not connected internally.", 15 GNDISO (power) "Ground Reference for Isolator Side 2. All of these pins are internally connected, and it is recommended that all GNDISO pins be connected to a common ground.", 16 GNDISO (power) "Ground Reference for Isolator Side 2. All of these pins are internally connected, and it is recommended that all GNDISO pins be connected to a common ground.", 17 VOB (hiz) "Logic Output B.", 18 VIA (in) "Logic Input A.", 19 GNDISO (power) "Ground Reference for Isolator Side 2. All of these pins are internally connected, and it is recommended that all GNDISO pins be connected to a common ground.", 20 VDD2 (power) "Power Supply for the Side 2 Logic Circuits of the Device. It is independent of VISO and can operate between 3.0 V and 5.5 V."